# EAGLE library part 74HC595DG (library ON Semiconductor_By_element14_Batch_1)
8-Bit Serial-Input/Serial or Parallel-Output Shift Register with Latched 3-State Outputs
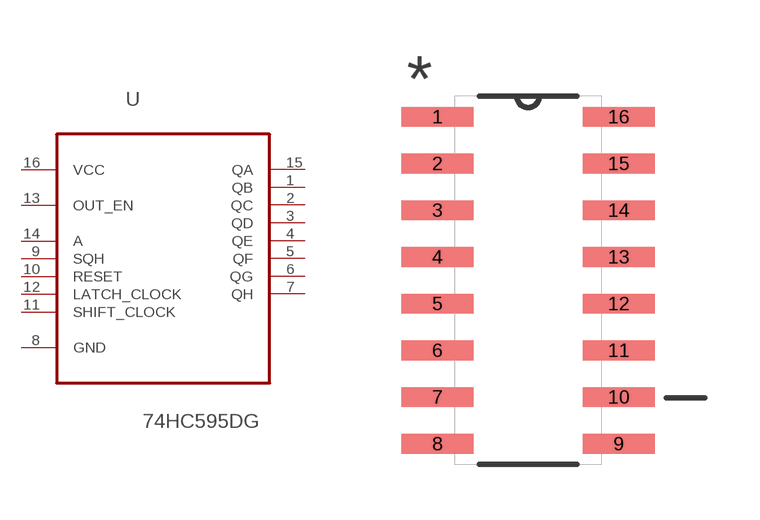
[diagram p0: symbol with the pads of SOIC127P600X175-16N; footprint SOIC127P600X175-16N]

Designator prefix U

## 74HC595DG (MPN: 74HC595DG; OC_FARNELL: 1640047; OC_NEWARK: 75M5727; PACKAGE: SOIC-16; SUPPLIER: ON SEMICONDUCTOR)  [SOIC127P600X175-16N]
1  QB  out
2  QC  out
3  QD  out
4  QE  out
5  QF  out
6  QG  out
7  QH  out
8  GND  pas
9  SQH  in
10  RESET  in
11  SHIFT_CLOCK  in
12  LATCH_CLOCK  in
13  OUT_EN  in
14  A  in
15  QA  out
16  VCC  pwr

## Footprint SOIC127P600X175-16N (pad centres in mm)
smd 1.956 x 0.533: 1 -2.464,4.445; 2 -2.464,3.175; 3 -2.464,1.905; 4 -2.464,0.635; 5 -2.464,-0.635; 6 -2.464,-1.905; 7 -2.464,-3.175; 8 -2.464,-4.445; 9 2.464,-4.445; 10 2.464,-3.175; 11 2.464,-1.905; 12 2.464,-0.635; 13 2.464,0.635; 14 2.464,1.905; 15 2.464,3.175; 16 2.464,4.445